# Altium schematic symbol library Schlib1.SchLib: 64 symbols
Pins are listed as number, name and electrical type; pins without a type are passive.

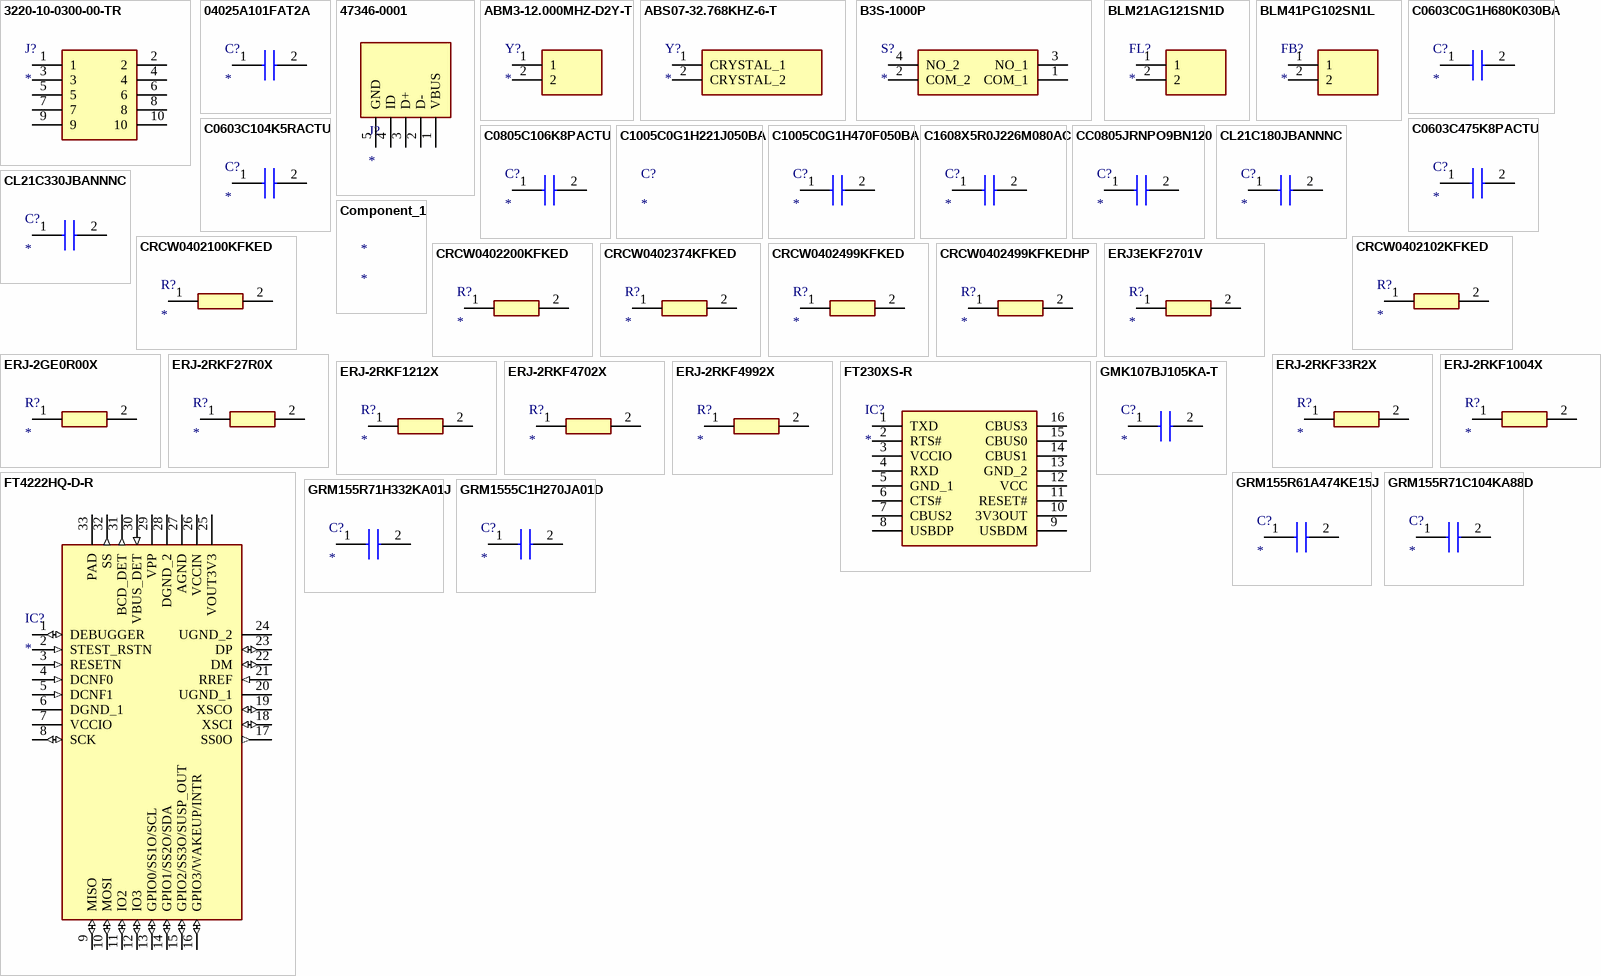
[diagram p0: symbols 3220-10-0300-00-TR to GRM1555C1H270JA01D]

## 3220-10-0300-00-TR
designator J?
Connector; Manufacturer_Name: CNC Tech; Manufacturer_Part_Number: 3220-10-0300-00-TR; Datasheet Link: http://www.cnctech.us/pdfs/3220-XX-0300-00-TR.pdf; Height: 5.55mm; Arrow Part Number: 3220-10-0300-00-TR; Arrow Price/Stock: https://www.arrow.com/en/products/3220-10-0300-00-tr/cnc-tech-llc?region=nac
footprint 322010030000TR
pins: 1, 2, 3, 4, 5, 6, 7, 8, 9, 10

## 04025A101FAT2A
designator C?
Capacitor; Manufacturer_Name: AVX; Manufacturer_Part_Number: 04025A101FAT2A; Datasheet Link: http://www.mouser.com/catalog/supplier/library/pdf/AVXSurfaceMountCeramic.pdf; Height: 0.56mm; Mouser Part Number: 581-04025A101F; Mouser Price/Stock: https://www.mouser.co.uk/ProductDetail/AVX/04025A101FAT2A?qs=MeUoP7zHHrXw8ucaKHqBUA%3D%3D; Arrow Part Number: 04025A101FAT2A; Arrow Price/Stock: https://www.arrow.com/en/products/04025a101fat2a/avx
footprint CAPC1005X56N
pins: 1, 2

## 47346-0001
designator J?
Connector; Manufacturer_Name: Molex; Manufacturer_Part_Number: 47346-0001; Datasheet Link: http://www.molex.com/pdm_docs/sd/473460001_sd.pdf; Mouser Part Number: 538-47346-0001; Mouser Price/Stock: https://www.mouser.co.uk/ProductDetail/Molex/47346-0001?qs=c2CV6XM0DweJBWaSeyWeCw%3D%3D
footprint usb conn
pins: 1 VBUS, 2 D-, 3 D+, 4 ID, 5 GND

## ABM3-12.000MHZ-D2Y-T
designator Y?
Crystal or Oscillator; Manufacturer_Name: ABRACON; Manufacturer_Part_Number: ABM3-12.000MHZ-D2Y-T; Datasheet Link: https://abracon.com/Resonators/abm3.pdf; Height: 1mm; Mouser Part Number: 815-ABM3-12-D2Y-T; Mouser Price/Stock: https://www.mouser.co.uk/ProductDetail/ABRACON/ABM3-12000MHZ-D2Y-T?qs=ihRgKfnEsN4a%252Bhdo6LkcSg%3D%3D; Arrow Part Number: ABM3-12.000MHZ-D2Y-T; Arrow Price/Stock: https://www.arrow.com/en/products/abm3-12.000mhz-d2y-t/abracon
footprint ABM38000MHzD2YT
pins: 1, 2

## ABS07-32.768KHZ-6-T
designator Y?
Crystal or Oscillator; Manufacturer_Name: ABRACON; Manufacturer_Part_Number: ABS07-32.768KHZ-6-T; Datasheet Link: https://abracon.com/Resonators/ABS07-LR.pdf; Height: 0.9mm; Mouser Part Number: 815-ABS07-32.768K6T; Mouser Price/Stock: https://www.mouser.co.uk/ProductDetail/ABRACON/ABS07-32768KHZ-6-T?qs=Pyu0ZBy%2FIJYqrd93qMRCiw%3D%3D; Arrow Part Number: ABS07-32.768KHZ-6-T; Arrow Price/Stock: https://www.arrow.com/en/products/abs07-32.768khz-6-t/abracon?region=nac
footprint ABS0732768KHZ6T
pins: 1 CRYSTAL_1, 2 CRYSTAL_2

## B3S-1000P
designator S?
Switch; Manufacturer_Name: Omron Electronics; Manufacturer_Part_Number: B3S-1000P; Datasheet Link: https://omronfs.omron.com/en_US/ecb/products/pdf/en-b3s.pdf; Height: 4.7mm; Mouser Part Number: 653-B3S-1000P; Mouser Price/Stock: https://www.mouser.co.uk/ProductDetail/Omron-Electronics/B3S-1000P?qs=VO24nqdQNUCU2XaZiLnzsQ%3D%3D; Arrow Part Number: B3S-1000P; Arrow Price/Stock: https://www.arrow.com/en/products/b3s1000p/omron?region=nac
footprint B3S1000P
pins: 1 COM_1, 2 COM_2, 3 NO_1, 4 NO_2

## BLM21AG121SN1D
designator FL?
Filter; Manufacturer_Name: Murata Electronics; Manufacturer_Part_Number: BLM21AG121SN1D; Datasheet Link: https://www.murata.com/en-us/products/productdetail?partno=BLM21AG121SN1%23; Height: 1.05mm; Mouser Part Number: 81-BLM21AG121SN1D; Mouser Price/Stock: https://www.mouser.co.uk/ProductDetail/Murata-Electronics/BLM21AG121SN1D/?qs=Yx1HeqtvVDh3I5YNpjdt%252BQ%3D%3D; Arrow Part Number: BLM21AG121SN1D; Arrow Price/Stock: https://www.arrow.com/en/products/blm21ag121sn1d/murata-manufacturing?region=europe
footprint BLM21AG102BH1J
pins: 1, 2

## BLM41PG102SN1L
designator FB?
Ferrite Bead; Manufacturer_Name: Murata Electronics; Manufacturer_Part_Number: BLM41PG102SN1L; Datasheet Link: https://www.murata.com/en-us/products/productdetail?partno=BLM41PG102SN1%23; Height: 1.8mm; Mouser Part Number: 81-BLM41PG102SN1L; Mouser Price/Stock: https://www.mouser.co.uk/ProductDetail/Murata-Electronics/BLM41PG102SN1L?qs=%252Bi%252B2JQhhbn3KYzONFOUA%2Fg%3D%3D; Arrow Part Number: BLM41PG102SN1L; Arrow Price/Stock: https://www.arrow.com/en/products/blm41pg102sn1l/murata-manufacturing
footprint BLM41PG102SH1L
pins: 1, 2

## C0603C0G1H680K030BA
designator C?
Capacitor; Manufacturer_Name: TDK; Manufacturer_Part_Number: C0603C0G1H680K030BA; Datasheet Link: https://product.tdk.com/system/files/dam/doc/product/capacitor/ceramic/mlcc/catalog/mlcc_commercial_general_en.pdf; Height: 0.33mm
footprint C0603_Commercial
pins: 1, 2

## C0603C104K5RACTU
designator C?
Capacitor; Manufacturer_Name: Kemet; Manufacturer_Part_Number: C0603C104K5RACTU; Datasheet Link: http://www.farnell.com/datasheets/2205446.pdf; Height: 0.95mm; Mouser Part Number: 80-C0603C104K5R; Mouser Price/Stock: https://www.mouser.co.uk/ProductDetail/KEMET/C0603C104K5RACTU?qs=l5k%252BbMnNDkkVcnZPSAaaiQ%3D%3D; Arrow Part Number: C0603C104K5RACTU; Arrow Price/Stock: https://www.arrow.com/en/products/c0603c104k5ractu/kemet-corporation?region=nac
footprint CAPC1608X95N
pins: 1, 2

## C0603C475K8PACTU
designator C?
Capacitor; Manufacturer_Name: Kemet; Manufacturer_Part_Number: C0603C475K8PACTU; Datasheet Link: http://componentsearchengine.com/Datasheets/1/C0603C475K8PACTU.pdf; Mouser Part Number: 80-C0603C475K8P; Mouser Price/Stock: https://www.mouser.co.uk/ProductDetail/KEMET/C0603C475K8PACTU?qs=K%2Fj%2Fqf%252B0fqK6lAUxhlPmKA%3D%3D; Arrow Part Number: C0603C475K8PACTU; Arrow Price/Stock: https://www.arrow.com/en/products/c0603c475k8pactu/kemet-corporation
footprint CAPC1608X85N
pins: 1 C1, 2 C2

## C0805C106K8PACTU
designator C?
Capacitor; Manufacturer_Name: Kemet; Manufacturer_Part_Number: C0805C106K8PACTU; Datasheet Link: https://www.arrow.com/en/products/c0805c106k8pactu/kemet-corporation; Height: 1.4mm; Mouser Part Number: 80-C0805C106K8P; Mouser Price/Stock: https://www.mouser.co.uk/ProductDetail/KEMET/C0805C106K8PACTU?qs=Zpyg6gQUYs39C21BeavaKA%3D%3D; Arrow Part Number: C0805C106K8PACTU; Arrow Price/Stock: https://www.arrow.com/en/products/c0805c106k8pactu/kemet-corporation
footprint CAPC2012X140N
pins: 1, 2

## C1005C0G1H221J050BA
designator C?
Capacitor; Manufacturer_Name: TDK; Manufacturer_Part_Number: C1005C0G1H221J050BA; Datasheet Link: https://product.tdk.com/system/files/dam/doc/product/capacitor/ceramic/mlcc/catalog/mlcc_commercial_general_en.pdf; Height: 0.55mm; Mouser Part Number: 810-C1005C0G1H221J; Mouser Price/Stock: https://www.mouser.co.uk/ProductDetail/TDK/C1005C0G1H221J050BA?qs=NRhsANhppD8YJPnzB6uXvQ%3D%3D; Arrow Part Number: C1005C0G1H221J050BA; Arrow Price/Stock: https://www.arrow.com/en/products/c1005c0g1h221j050ba/tdk
footprint C1005_Commercial

## C1005C0G1H470F050BA
designator C?
Capacitor; Manufacturer_Name: TDK; Manufacturer_Part_Number: C1005C0G1H470F050BA; Datasheet Link: https://product.tdk.com/system/files/dam/doc/product/capacitor/ceramic/mlcc/catalog/mlcc_commercial_general_en.pdf; Height: 0.55mm; Mouser Part Number: 810-C1005C0G1H470F; Mouser Price/Stock: https://www.mouser.com/Search/Refine.aspx?Keyword=810-C1005C0G1H470F
footprint C1005_Commercial
pins: 1, 2

## C1608X5R0J226M080AC
designator C?
Capacitor; Manufacturer_Name: TDK; Manufacturer_Part_Number: C1608X5R0J226M080AC; Datasheet Link: https://product.tdk.com/system/files/dam/doc/product/capacitor/ceramic/mlcc/catalog/mlcc_commercial_general_en.pdf; Height: 0.9mm; Mouser Part Number: 810-C1608X5R0J226M; Mouser Price/Stock: https://www.mouser.co.uk/ProductDetail/TDK/C1608X5R0J226M080AC?qs=NRhsANhppD%2FZwGFVoUm6mQ%3D%3D; Arrow Part Number: C1608X5R0J226M080AC; Arrow Price/Stock: https://www.arrow.com/en/products/c1608x5r0j226m080ac/tdk
footprint C1608_Commercial
pins: 1, 2

## CC0805JRNPO9BN120
designator C?
Capacitor; Manufacturer_Name: YAGEO (PHYCOMP); Manufacturer_Part_Number: CC0805JRNPO9BN120; Datasheet Link: https://www.mouser.com/datasheet/2/447/UPY-GP_NP0_16V-to-50V_16-1109089.pdf; Height: 0.7mm; Mouser Part Number: 603-CC805JRNPO9BN120; Mouser Price/Stock: https://www.mouser.co.uk/ProductDetail/YAGEO/CC0805JRNPO9BN120?qs=AgBp2OyFlx%252ByU%252BlCha9FzQ%3D%3D; Arrow Part Number: CC0805JRNPO9BN120; Arrow Price/Stock: https://www.arrow.com/en/products/cc0805jrnpo9bn120/yageo
footprint CAPC2012X70N
pins: 1, 2

## CL21C180JBANNNC
designator C?
Capacitor; Manufacturer_Name: Samsung Electro-Mechanics; Manufacturer_Part_Number: CL21C180JBANNNC; Datasheet Link: https://datasheet.datasheetarchive.com/originals/distributors/Datasheets_SAMA/704d9ee6c0360fd977a3c31d735d98ca.pdf; Height: 1.35mm; Arrow Part Number: CL21C180JBANNNC; Arrow Price/Stock: https://www.arrow.com/en/products/cl21c180jbannnc/samsung-electro-mechanics
footprint CAPC2012X135N
pins: 1, 2

## CL21C330JBANNNC
designator C?
Capacitor; Manufacturer_Name: Samsung Electro-Mechanics; Manufacturer_Part_Number: CL21C330JBANNNC; Datasheet Link: http://product.samsungsem.com/mlcc/CL21C330JBANNW.do; Height: 0.75mm
footprint CAPC2012X75N
pins: 1, 2

## Component_1
designator *

## CRCW0402100KFKED
designator R?
Resistor; Manufacturer_Name: Vishay; Manufacturer_Part_Number: CRCW0402100KFKED; Datasheet Link: http://www.vishay.com/docs/20035/dcrcwe3.pdf; Height: 0.4mm; Mouser Part Number: 71-CRCW0402-100K-E3; Mouser Price/Stock: https://www.mouser.co.uk/ProductDetail/Vishay-Dale/CRCW0402100KFKED?qs=OlqPY1CiralZGKRwQ4Glcg%3D%3D; Arrow Part Number: CRCW0402100KFKED; Arrow Price/Stock: https://www.arrow.com/en/products/crcw0402100kfked/vishay
footprint RESC1005X40N
pins: 1, 2

## CRCW0402102KFKED
designator R?
Resistor; Manufacturer_Name: Vishay; Manufacturer_Part_Number: CRCW0402102KFKED; Datasheet Link: http://www.vishay.com/docs/20035/dcrcwe3.pdf; Height: 0.4mm; Mouser Part Number: 71-CRCW0402-102K-E3; Mouser Price/Stock: https://www.mouser.co.uk/ProductDetail/Vishay-Dale/CRCW0402102KFKED?qs=rlE3Te1NifwphdA8fQQlsA%3D%3D; Arrow Part Number: CRCW0402102KFKED; Arrow Price/Stock: https://www.arrow.com/en/products/crcw0402102kfked/vishay
footprint RESC1005X40N
pins: 1, 2

## CRCW0402200KFKED
designator R?
Resistor; Manufacturer_Name: Vishay; Manufacturer_Part_Number: CRCW0402200KFKED; Datasheet Link: http://www.vishay.com/docs/20035/dcrcwe3.pdf; Height: 0.4mm; Mouser Part Number: 71-CRCW0402-200K-E3; Mouser Price/Stock: https://www.mouser.com/Search/Refine.aspx?Keyword=71-CRCW0402-200K-E3; Arrow Part Number: CRCW0402200KFKED; Arrow Price/Stock: https://www.arrow.com/en/products/crcw0402200kfked/vishay
footprint RESC1005X40N
pins: 1, 2

## CRCW0402374KFKED
designator R?
Resistor; Manufacturer_Name: Vishay; Manufacturer_Part_Number: CRCW0402374KFKED; Datasheet Link: http://www.vishay.com/docs/20035/dcrcwe3.pdf; Height: 0.4mm; Mouser Part Number: 71-CRCW0402-374K-E3; Mouser Price/Stock: https://www.mouser.co.uk/ProductDetail/Vishay-Dale/CRCW0402374KFKED?qs=1XGAtBqYNz57mwAP8KKAqw%3D%3D; Arrow Part Number: CRCW0402374KFKED; Arrow Price/Stock: https://www.arrow.com/en/products/crcw0402374kfked/vishay
footprint RESC1005X40N
pins: 1, 2

## CRCW0402499KFKED
designator R?
Resistor; Manufacturer_Name: Vishay; Manufacturer_Part_Number: CRCW0402499KFKED; Datasheet Link: http://www.vishay.com/docs/20035/dcrcwe3.pdf; Height: 0.4mm; Mouser Part Number: 71-CRCW0402-499K-E3; Mouser Price/Stock: https://www.mouser.co.uk/ProductDetail/Vishay-Dale/CRCW0402499KFKED?qs=hAuyw6LW%252BLiJEa%252B3vtZI3Q%3D%3D
footprint RESC1005X40N
pins: 1, 2

## CRCW0402499KFKEDHP
designator R?
Resistor; Manufacturer_Name: Vishay; Manufacturer_Part_Number: CRCW0402499KFKEDHP; Datasheet Link: http://www.vishay.com/docs/20035/dcrcwe3.pdf; Height: 0.4mm; Mouser Part Number: 71-CRCW0402499KFKEDH; Mouser Price/Stock: https://www.mouser.co.uk/ProductDetail/Vishay-Dale/CRCW0402499KFKEDHP?qs=3t4MbaZKGHGzbewIVrW3wg%3D%3D
footprint RESC1005X40N
pins: 1, 2

## ERJ3EKF2701V
designator R?
Resistor; Manufacturer_Name: Panasonic; Manufacturer_Part_Number: ERJ3EKF2701V; Datasheet Link: https://industrial.panasonic.com/cdbs/www-data/pdf/RDA0000/AOA0000C304.pdf; Height: 0.55mm
footprint ERJ3EK_(0603)
pins: 1, 2

## ERJ-2GE0R00X
designator R?
Resistor; Manufacturer_Name: Panasonic; Manufacturer_Part_Number: ERJ-2GE0R00X; Datasheet Link: http://industrial.panasonic.com/www-cgi/jvcr13pz.cgi?E+PZ+3+AOA0001+ERJ2GE0R00X+7+WW; Height: 0.4mm; Mouser Part Number: 667-ERJ-2GE0R00X; Mouser Price/Stock: https://www.mouser.co.uk/ProductDetail/Panasonic/ERJ-2GE0R00X?qs=Cz%252B5TvT4yly5%252BP7oLZcLxw%3D%3D; Arrow Part Number: ERJ-2GE0R00X; Arrow Price/Stock: https://www.arrow.com/en/products/erj2ge0r00x/panasonic
footprint RESC1005X40N (Footprint not found)
pins: 1, 2

## ERJ-2RKF27R0X
designator R?
Resistor; Manufacturer_Name: Panasonic; Manufacturer_Part_Number: ERJ-2RKF27R0X; Datasheet Link: http://industrial.panasonic.com/cdbs/www-data/pdf/RDA0000/AOA0000C304.pdf; Height: 0.4mm; Mouser Part Number: 667-ERJ-2RKF27R0X; Mouser Price/Stock: https://www.mouser.co.uk/ProductDetail/Panasonic/ERJ-2RKF27R0X?qs=YMBIwoNQYdXRmpDlurxRVg%3D%3D; Arrow Part Number: ERJ-2RKF27R0X; Arrow Price/Stock: https://www.arrow.com/en/products/erj-2rkf27r0x/panasonic
footprint ERJ2R_(0402)
pins: 1, 2

## ERJ-2RKF33R2X
designator R?
Resistor; Manufacturer_Name: Panasonic; Manufacturer_Part_Number: ERJ-2RKF33R2X; Datasheet Link: http://industrial.panasonic.com/cdbs/www-data/pdf/RDA0000/AOA0000C304.pdf; Height: 0.4mm; Mouser Part Number: 667-ERJ-2RKF33R2X; Mouser Price/Stock: https://www.mouser.com/Search/Refine.aspx?Keyword=667-ERJ-2RKF33R2X
footprint ERJ2R_(0402)
pins: 1, 2

## ERJ-2RKF1004X
designator R?
Resistor; Manufacturer_Name: Panasonic; Manufacturer_Part_Number: ERJ-2RKF1004X; Datasheet Link: http://industrial.panasonic.com/cdbs/www-data/pdf/RDA0000/AOA0000C304.pdf; Height: 0.4mm; Mouser Part Number: 667-ERJ-2RKF1004X; Mouser Price/Stock: https://www.mouser.co.uk/ProductDetail/Panasonic/ERJ-2RKF1004X?qs=H7k1u0Mp9JTG%252BclS6LVdqw%3D%3D; Arrow Part Number: ERJ-2RKF1004X; Arrow Price/Stock: https://www.arrow.com/en/products/erj-2rkf1004x/panasonic
footprint ERJ2R_(0402)
pins: 1, 2

## ERJ-2RKF1212X
designator R?
Resistor; Manufacturer_Name: Panasonic; Manufacturer_Part_Number: ERJ-2RKF1212X; Datasheet Link: http://industrial.panasonic.com/cdbs/www-data/pdf/RDA0000/AOA0000C304.pdf; Height: 0.4mm; Mouser Part Number: 667-ERJ-2RKF1212X; Mouser Price/Stock: https://www.mouser.co.uk/ProductDetail/Panasonic/ERJ-2RKF1212X?qs=MVjVSMjNRMoqfjL0Oti%252BUw%3D%3D
footprint ERJ2R_(0402)
pins: 1, 2

## ERJ-2RKF4702X
designator R?
Resistor; Manufacturer_Name: Panasonic; Manufacturer_Part_Number: ERJ-2RKF4702X; Datasheet Link: http://industrial.panasonic.com/cdbs/www-data/pdf/RDA0000/AOA0000C304.pdf; Height: 0.4mm; Mouser Part Number: 667-ERJ-2RKF4702X; Mouser Price/Stock: https://www.mouser.co.uk/ProductDetail/Panasonic/ERJ-2RKF4702X?qs=YMBIwoNQYdXNvWEgS7s3Nw%3D%3D; Arrow Part Number: ERJ-2RKF4702X; Arrow Price/Stock: https://www.arrow.com/en/products/erj-2rkf4702x/panasonic
footprint ERJ2R_(0402)
pins: 1, 2

## ERJ-2RKF4992X
designator R?
Resistor; Manufacturer_Name: Panasonic; Manufacturer_Part_Number: ERJ-2RKF4992X; Datasheet Link: http://industrial.panasonic.com/cdbs/www-data/pdf/RDA0000/AOA0000C304.pdf; Height: 0.4mm; Mouser Part Number: 667-ERJ-2RKF4992X; Mouser Price/Stock: https://www.mouser.co.uk/ProductDetail/Panasonic/ERJ-2RKF4992X/?qs=1iN9QGIZ5R%252Bb2pvOGnid7w%3D%3D; Arrow Part Number: ERJ-2RKF4992X; Arrow Price/Stock: https://www.arrow.com/en/products/erj-2rkf4992x/panasonic
footprint ERJ2R_(0402)
pins: 1, 2

## FT230XS-R
designator IC?
Integrated Circuit; Manufacturer_Name: FTDI Chip; Manufacturer_Part_Number: FT230XS-R; Datasheet Link: http://www.ftdichip.com/Support/Documents/DataSheets/ICs/DS_FT230X.pdf; Height: 1.753mm; Mouser Part Number: 895-FT230XS-R; Mouser Price/Stock: https://www.mouser.co.uk/ProductDetail/FTDI/FT230XS-R?qs=Gp1Yz1mis3XyCLeYOseSng%3D%3D; Arrow Part Number: FT230XS-R; Arrow Price/Stock: http://www.arrow.com/en/products/ft230xs-r/ftdi-chip
footprint SOP64P599X175-16N
pins: 1 TXD, 2 RTS#, 3 VCCIO, 4 RXD, 5 GND_1, 6 CTS#, 7 CBUS2, 8 USBDP, 9 USBDM, 10 3V3OUT, 11 RESET#, 12 VCC, 13 GND_2, 14 CBUS1, 15 CBUS0, 16 CBUS3

## FT4222HQ-D-R
designator IC?
Integrated Circuit; Manufacturer_Name: FTDI Chip; Manufacturer_Part_Number: FT4222HQ-D-R; Datasheet Link: https://www.ftdichip.com/Support/Documents/DataSheets/ICs/DS_FT4222H.pdf; Height: 0.9mm; Mouser Part Number: 895-FT4222HQ-D-R; Mouser Price/Stock: https://www.mouser.co.uk/ProductDetail/FTDI/FT4222HQ-D-R?qs=F5EMLAvA7ICA8wBdrr3fuQ%3D%3D; Arrow Part Number: FT4222HQ-D-R; Arrow Price/Stock: https://www.arrow.com/en/products/ft4222hq-d-r/ftdi-chip?region=nac
footprint QFN50P500X500X90-33N
pins: 1 DEBUGGER (io), 2 STEST_RSTN (in), 3 RESETN (in), 4 DCNF0 (in), 5 DCNF1 (in), 6 DGND_1 (power), 7 VCCIO (power), 8 SCK (io), 9 MISO (io), 10 MOSI (io), 11 IO2 (io), 12 IO3 (io), 13 GPIO0/SS1O/SCL (io), 14 GPIO1/SS2O/SDA (io), 15 GPIO2/SS3O/SUSP_OUT (io), 16 GPIO3/WAKEUP/INTR (io), 17 SS0O (out), 18 XSCI (io), 19 XSCO (io), 20 UGND_1 (power), 21 RREF (in), 22 DM (io), 23 DP (io), 24 UGND_2 (power), 25 VOUT3V3 (power), 26 VCCIN (power), 27 AGND (power), 28 DGND_2 (power), 29 VPP (power), 30 VBUS_DET (in), 31 BCD_DET (out), 32 SS (out), 33 PAD (power)

## GMK107BJ105KA-T
designator C?
Capacitor; Manufacturer_Name: TAIYO YUDEN; Manufacturer_Part_Number: GMK107BJ105KA-T; Datasheet Link: https://datasheet.datasheetarchive.com/originals/distributors/Datasheets-DGA10/2404957.pdf; Height: 0.9mm; Mouser Part Number: 963-GMK107BJ105KA-T; Mouser Price/Stock: https://www.mouser.co.uk/ProductDetail/Taiyo-Yuden/GMK107BJ105KA-T?qs=I6KAKw0tg2ykHAqS8PSP9Q%3D%3D
footprint CAPC1608X90N
pins: 1, 2

## GRM155R61A474KE15J
designator C?
Capacitor; Manufacturer_Name: Murata Electronics; Manufacturer_Part_Number: GRM155R61A474KE15J; Datasheet Link: https://datasheet.datasheetarchive.com/originals/distributors/Datasheets_SAMA/ec4f1577dddcc7a13ddad897a28002d3.pdf; Height: 0.55mm; Mouser Part Number: 81-GRM155R61A474KE5J; Mouser Price/Stock: https://www.mouser.co.uk/ProductDetail/Murata-Electronics/GRM155R61A474KE15J?qs=vlRPwuE0P7lseeNiDfG%252BAQ%3D%3D; Arrow Part Number: GRM155R61A474KE15J; Arrow Price/Stock: https://www.arrow.com/en/products/grm155r61a474ke15j/murata-manufacturing
footprint CAPC1005X55N
pins: 1, 2

## GRM155R71C104KA88D
designator C?
Capacitor; Manufacturer_Name: Murata Electronics; Manufacturer_Part_Number: GRM155R71C104KA88D; Datasheet Link: https://datasheet.datasheetarchive.com/originals/distributors/Datasheets_SAMA/ec4f1577dddcc7a13ddad897a28002d3.pdf; Height: 0.55mm; Mouser Part Number: N/A; Arrow Part Number: GRM155R71C104KA88D; Arrow Price/Stock: https://www.arrow.com/en/products/grm155r71c104ka88d/murata-manufacturing?region=nac
footprint CAPC1005X55N
pins: 1, 2

## GRM155R71H332KA01J
designator C?
Capacitor; Manufacturer_Name: Murata Electronics; Manufacturer_Part_Number: GRM155R71H332KA01J; Datasheet Link: https://datasheet.datasheetarchive.com/originals/distributors/Datasheets_SAMA/ec4f1577dddcc7a13ddad897a28002d3.pdf; Height: 0.55mm; Mouser Part Number: 81-GRM155R71H332KA1J; Mouser Price/Stock: https://www.mouser.com/Search/Refine.aspx?Keyword=81-GRM155R71H332KA1J
footprint CAPC1005X55N
pins: 1, 2

## GRM1555C1H270JA01D
designator C?
Capacitor; Manufacturer_Name: Murata Electronics; Manufacturer_Part_Number: GRM1555C1H270JA01D; Datasheet Link: https://datasheet.datasheetarchive.com/originals/distributors/Datasheets_SAMA/ec4f1577dddcc7a13ddad897a28002d3.pdf; Height: 0.55mm; Mouser Part Number: 81-GRM1555C1H270JA1D; Mouser Price/Stock: https://www.mouser.co.uk/ProductDetail/Murata-Electronics/GRM1555C1H270JA01D?qs=4k9rjS6ZRl6bZIQOxCwSeQ%3D%3D; Arrow Part Number: GRM1555C1H270JA01D; Arrow Price/Stock: https://www.arrow.com/en/products/grm1555c1h270ja01d/murata-manufacturing
footprint CAPC1005X55N
pins: 1, 2

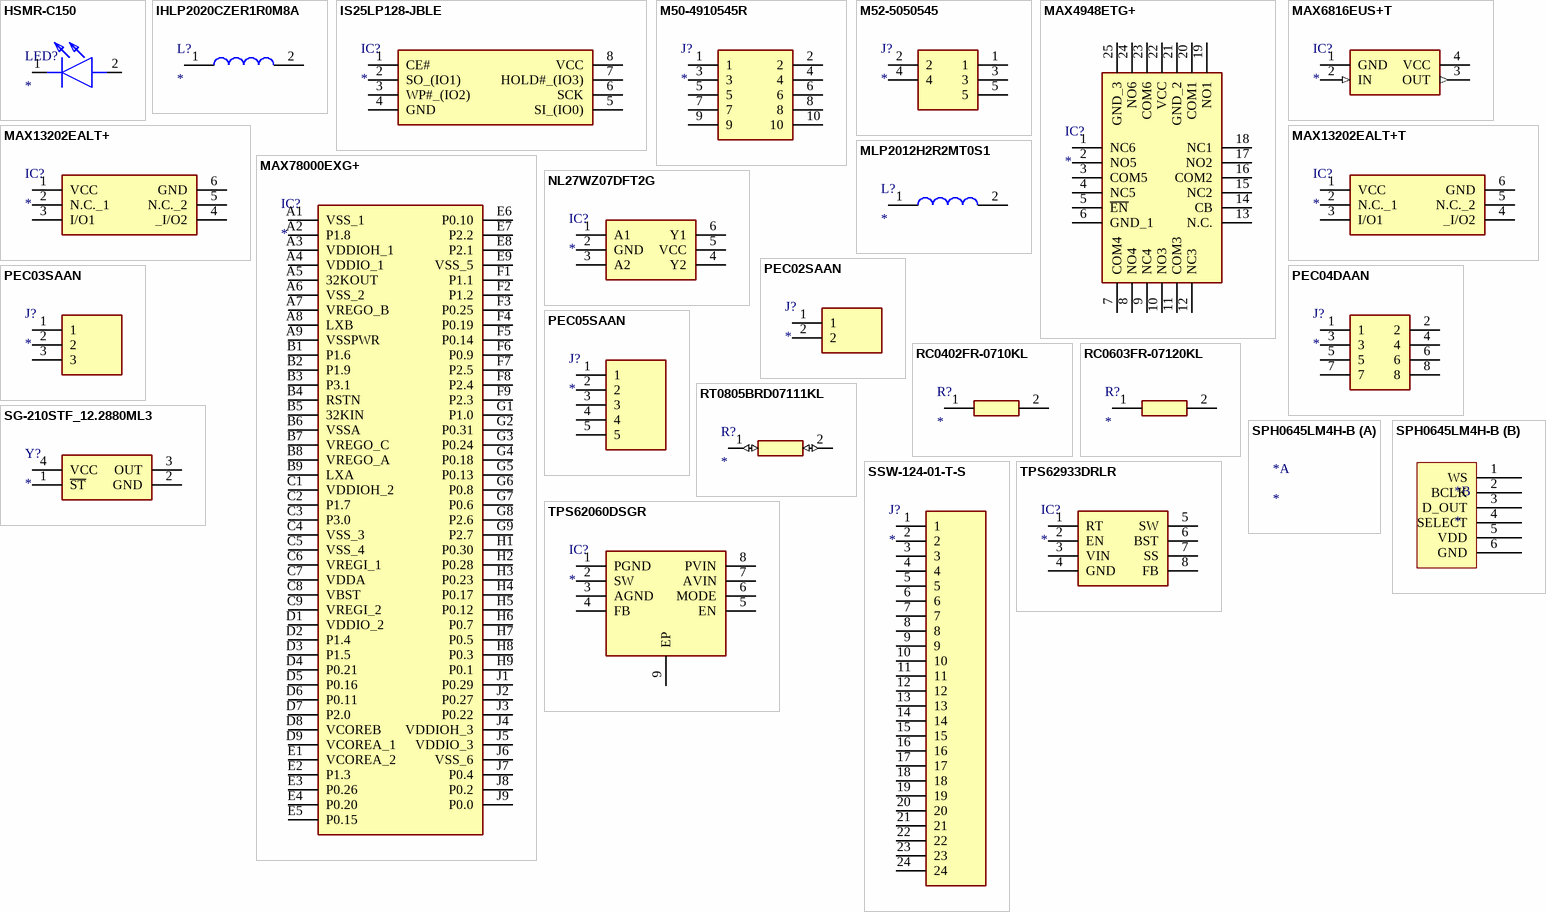
[diagram p1: symbols HSMR-C150 to TPS62933DRLR]

## HSMR-C150
designator LED?
LED; Manufacturer_Name: Avago Technologies; Manufacturer_Part_Number: HSMR-C150; Datasheet Link: https://componentsearchengine.com/Datasheets/2/HSMR-C150.pdf; Height: 1.2mm; Mouser Part Number: 630-HSMR-C150; Mouser Price/Stock: https://www.mouser.co.uk/ProductDetail/Broadcom-Avago/HSMR-C150?qs=YDL0qNrpDT5KBl5KNuuRTw%3D%3D
footprint LEDC3216X120N
pins: 1 K, 2 A

## IHLP2020CZER1R0M8A
designator L?
Inductor; Manufacturer_Name: Vishay; Manufacturer_Part_Number: IHLP2020CZER1R0M8A; Datasheet Link: https://www.vishay.com/docs/34563/ihlp-2020cz-8a.pdf; Height: 3mm; Mouser Part Number: 70-IHLP2020CZR1R0M8A; Mouser Price/Stock: https://www.mouser.co.uk/ProductDetail/Vishay-Dale/IHLP2020CZER1R0M8A?qs=DRkmTr78QAQbvJic74K0Vg%3D%3D
footprint INDPM5552X300N
pins: 1, 2

## IS25LP128-JBLE
designator IC?
Integrated Circuit; Manufacturer_Name: Integrated Silicon Solution Inc.; Manufacturer_Part_Number: IS25LP128-JBLE; Datasheet Link: https://datasheet.datasheetarchive.com/originals/distributors/DKDS-13/254838.pdf; Height: 2.16mm; Mouser Part Number: 870-IS25LP128-JBLE; Mouser Price/Stock: https://www.mouser.co.uk/ProductDetail/ISSI/IS25LP128-JBLE?qs=rnuWwpjhhVunvfx8GxnhmA%3D%3D; Arrow Part Number: IS25LP128-JBLE; Arrow Price/Stock: https://www.arrow.com/en/products/is25lp128-jble/integrated-silicon-solution-inc
footprint SOIC127P790X216-8N
pins: 1 CE#, 2 SO_(IO1), 3 WP#_(IO2), 4 GND, 5 SI_(IO0), 6 SCK, 7 HOLD#_(IO3), 8 VCC

## M50-4910545R
designator J?
Connector; Manufacturer_Name: Harwin; Manufacturer_Part_Number: M50-4910545R; Datasheet Link: https://cdn.harwin.com/pdfs/M50-491.pdf; Height: 6.35mm; Mouser Part Number: 855-M50-4910545R; Mouser Price/Stock: https://www.mouser.co.uk/ProductDetail/Harwin/M50-4910545R?qs=k41KVqW3ymoVzU%2F4Ovjqaw%3D%3D
footprint M504910545R
pins: 1, 2, 3, 4, 5, 6, 7, 8, 9, 10

## M52-5050545
designator J?
Connector; Manufacturer_Name: Harwin; Manufacturer_Part_Number: M52-5050545; Datasheet Link: https://cdn.harwin.com/pdfs/M52-505.pdf; Height: 5.7mm; Mouser Part Number: 855-M52-5050545; Mouser Price/Stock: https://www.mouser.co.uk/ProductDetail/Harwin/M52-5050545?qs=%252Bk6%2F5FB6qrk5mVrIdNiYzQ%3D%3D
footprint M525050545
pins: 1, 2, 3, 4, 5

## MAX4948ETG+
designator IC?
Integrated Circuit; Manufacturer_Name: Maxim Integrated; Manufacturer_Part_Number: MAX4948ETG+; Datasheet Link: https://datasheets.maximintegrated.com/en/ds/MAX4947-MAX4948.pdf; Height: 0.8mm; Mouser Part Number: 700-MAX4948ETG; Mouser Price/Stock: https://www.mouser.co.uk/ProductDetail/Maxim-Integrated/MAX4948ETG%2b/?qs=LHmEVA8xxfa3Nwt5cul%252BwA%3D%3D
footprint QFN50P400X400X80-25N
pins: 1 NC6, 2 NO5, 3 COM5, 4 NC5, 5 ~{EN}, 6 GND_1, 7 COM4, 8 NO4, 9 NC4, 10 NO3, 11 COM3, 12 NC3, 13 N.C., 14 CB, 15 NC2, 16 COM2, 17 NO2, 18 NC1, 19 NO1, 20 COM1, 21 GND_2, 22 VCC, 23 COM6, 24 NO6, 25 GND_3

## MAX6816EUS+T
designator IC?
Integrated Circuit; Manufacturer_Name: Maxim Integrated; Manufacturer_Part_Number: MAX6816EUS+T; Datasheet Link: http://datasheets.maximintegrated.com/en/ds/MAX6816-MAX6818.pdf; Height: 1.22mm; Mouser Part Number: 700-MAX6816EUST; Mouser Price/Stock: https://www.mouser.co.uk/ProductDetail/Maxim-Integrated/MAX6816EUS%2bT?qs=1THa7WoU59EAx6vXEummCg%3D%3D
footprint MAX812REUST
pins: 1 GND (power), 2 IN (in), 3 OUT (out), 4 VCC (power)

## MAX13202EALT+
designator IC?
Integrated Circuit; Manufacturer_Name: Maxim Integrated; Manufacturer_Part_Number: MAX13202EALT+; Datasheet Link: https://pdfserv.maximintegrated.com/en/ds/MAX13202E-MAX13208E.pdf; Height: 0.8mm
footprint MAX13202EALT
pins: 1 VCC, 2 N.C._1, 3 I/O1, 4 _I/O2, 5 N.C._2, 6 GND

## MAX13202EALT+T
designator IC?
Integrated Circuit; Manufacturer_Name: Maxim Integrated; Manufacturer_Part_Number: MAX13202EALT+T; Datasheet Link: https://pdfserv.maximintegrated.com/en/ds/MAX13202E-MAX13208E.pdf; Height: 0.8mm; Mouser Part Number: 700-MAX13202EALTT; Mouser Price/Stock: https://www.mouser.co.uk/ProductDetail/Maxim-Integrated/MAX13202EALT%2bT?qs=8wHch9UpSvYWK1vZ7ylxSw%3D%3D
footprint MAX13202EALTT
pins: 1 VCC, 2 N.C._1, 3 I/O1, 4 _I/O2, 5 N.C._2, 6 GND

## MAX78000EXG+
designator IC?
Integrated Circuit; Manufacturer_Name: Maxim Integrated; Manufacturer_Part_Number: MAX78000EXG+; Datasheet Link: https://pdfserv.maximintegrated.com/en/ds/MAX78000.pdf; Height: 1.3mm; Mouser Part Number: 700-MAX78000EXG+; Mouser Price/Stock: https://www.mouser.co.uk/ProductDetail/Maxim-Integrated/MAX78000EXG%2b?qs=yqaQSyyJnNigS5t%2FKz0nhQ%3D%3D
footprint max78000
pins: A1 VSS_1, A2 P1.8, A3 VDDIOH_1, A4 VDDIO_1, A5 32KOUT, A6 VSS_2, A7 VREGO_B, A8 LXB, A9 VSSPWR, B1 P1.6, B2 P1.9, B3 P3.1, B4 RSTN, B5 32KIN, B6 VSSA, B7 VREGO_C, B8 VREGO_A, B9 LXA, C1 VDDIOH_2, C2 P1.7, C3 P3.0, C4 VSS_3, C5 VSS_4, C6 VREGI_1, C7 VDDA, C8 VBST, C9 VREGI_2, D1 VDDIO_2, D2 P1.4, D3 P1.5, D4 P0.21, D5 P0.16, D6 P0.11, D7 P2.0, D8 VCOREB, D9 VCOREA_1, E1 VCOREA_2, E2 P1.3, E3 P0.26, E4 P0.20, E5 P0.15, E6 P0.10, E7 P2.2, E8 P2.1, E9 VSS_5, F1 P1.1, F2 P1.2, F3 P0.25, F4 P0.19, F5 P0.14, F6 P0.9, F7 P2.5, F8 P2.4, F9 P2.3, G1 P1.0, G2 P0.31, G3 P0.24, G4 P0.18, G5 P0.13, G6 P0.8, G7 P0.6, G8 P2.6, G9 P2.7, H1 P0.30, H2 P0.28, H3 P0.23, H4 P0.17, H5 P0.12, H6 P0.7, H7 P0.5, H8 P0.3, H9 P0.1, J1 P0.29, J2 P0.27, J3 P0.22, J4 VDDIOH_3, J5 VDDIO_3, J6 VSS_6, J7 P0.4, J8 P0.2, J9 P0.0

## MLP2012H2R2MT0S1
designator L?
Inductor; Manufacturer_Name: TDK; Manufacturer_Part_Number: MLP2012H2R2MT0S1; Datasheet Link: https://product.tdk.com/system/files/dam/doc/product/inductor/inductor/smd/catalog/inductor_commercial_power_mlp2012_en.pdf; Height: 1.05mm; Mouser Part Number: 810-MLP2012H2R2MT0S1; Mouser Price/Stock: https://www.mouser.co.uk/ProductDetail/TDK/MLP2012H2R2MT0S1?qs=%2FPzWLGNeQ%252BgQ1f6yrO9reg%3D%3D; Arrow Part Number: MLP2012H2R2MT0S1; Arrow Price/Stock: https://www.arrow.com/en/products/mlp2012h2r2mt0s1/tdk
footprint INDC2012X105N
pins: 1, 2

## NL27WZ07DFT2G
designator IC?
Integrated Circuit; Manufacturer_Name: ON Semiconductor; Manufacturer_Part_Number: NL27WZ07DFT2G; Datasheet Link: https://www.onsemi.com/pdf/datasheet/nl27wz07-d.pdf; Height: 1.1mm; Mouser Part Number: 863-NL27WZ07DFT2G; Mouser Price/Stock: https://www.mouser.com/Search/Refine.aspx?Keyword=863-NL27WZ07DFT2G; Arrow Part Number: NL27WZ07DFT2G; Arrow Price/Stock: https://www.arrow.com/en/products/nl27wz07dft2g/on-semiconductor?region=nac
footprint SOT65P210X110-6N
pins: 1 A1, 2 GND, 3 A2, 4 Y2, 5 VCC, 6 Y1

## PEC02SAAN
designator J?
Connector; Manufacturer_Name: Sullins; Manufacturer_Part_Number: PEC02SAAN; Datasheet Link: https://s3.amazonaws.com/catalogspreads-pdf/PAGE112-113%20.100%20MALE%20HDR.pdf; Height: 8.38mm
footprint HDRV2W64P0X254_1X2_508X254X838P
pins: 1, 2

## PEC03SAAN
designator J?
Connector; Manufacturer_Name: Sullins; Manufacturer_Part_Number: PEC03SAAN; Datasheet Link: https://s3.amazonaws.com/catalogspreads-pdf/PAGE112-113%20.100%20MALE%20HDR.pdf; Height: 8.38mm
footprint HDRV3W64P0X254_1X3_762X254X838P
pins: 1, 2, 3

## PEC04DAAN
designator J?
Connector; Manufacturer_Name: Sullins; Manufacturer_Part_Number: PEC04DAAN; Datasheet Link: https://drawings-pdf.s3.amazonaws.com/C10419.pdf; Height: 8.38mm
footprint HDRV8W64P254_2X4_1016X508X838P
pins: 1, 2, 3, 4, 5, 6, 7, 8

## PEC05SAAN
designator J?
Connector; Manufacturer_Name: Sullins; Manufacturer_Part_Number: PEC05SAAN; Datasheet Link: https://s3.amazonaws.com/catalogspreads-pdf/PAGE112-113%20.100%20MALE%20HDR.pdf; Height: 8.58mm
footprint HDRV5W64P0X254_1X5_1270X254X858P
pins: 1, 2, 3, 4, 5

## RC0402FR-0710KL
designator R?
Resistor; Manufacturer_Name: YAGEO (PHYCOMP); Manufacturer_Part_Number: RC0402FR-0710KL; Datasheet Link: https://datasheet.datasheetarchive.com/originals/distributors/Datasheets_SAMA/902f9e387b938f871d31120f5fc1d65e.pdf; Height: 0.4mm; Mouser Part Number: 603-RC0402FR-0710KL; Mouser Price/Stock: https://www.mouser.co.uk/ProductDetail/YAGEO/RC0402FR-0710KL?qs=I1mnnYJTTsxUoNwrUsQExA%3D%3D; Arrow Part Number: RC0402FR-0710KL; Arrow Price/Stock: https://www.arrow.com/en/products/rc0402fr-0710kl/yageo
footprint RESC1005X40N
pins: 1, 2

## RC0603FR-07120KL
designator R?
Resistor; Manufacturer_Name: YAGEO (PHYCOMP); Manufacturer_Part_Number: RC0603FR-07120KL; Datasheet Link: https://datasheet.datasheetarchive.com/originals/distributors/Datasheets_SAMA/902f9e387b938f871d31120f5fc1d65e.pdf; Height: 0.55mm; Mouser Part Number: 603-RC0603FR-07120KL; Mouser Price/Stock: https://www.mouser.co.uk/ProductDetail/YAGEO/RC0603FR-07120KL?qs=IuGqVx9wL0JtpsOJLI%252BszA%3D%3D; Arrow Part Number: RC0603FR-07120KL; Arrow Price/Stock: https://www.arrow.com/en/products/rc0603fr-07120kl/yageo?region=europe
footprint RESC1608X55N
pins: 1, 2

## RT0805BRD07111KL
designator R?
Resistor; Manufacturer_Name: YAGEO (PHYCOMP); Manufacturer_Part_Number: RT0805BRD07111KL; Datasheet Link: https://componentsearchengine.com/Datasheets/1/RT0805BRD07111KL.pdf; Height: 0.6mm; Mouser Part Number: 603-RT0805BRD07111KL; Mouser Price/Stock: https://www.mouser.co.uk/ProductDetail/Yageo/RT0805BRD07111KL?qs=bQfrgN9vNvxW8OaJGLTFCQ%3D%3D; Arrow Part Number: RT0805BRD07111KL; Arrow Price/Stock: https://www.arrow.com/en/products/rt0805brd07111kl/yageo
footprint RESC2012X60N
pins: 1 (io), 2 (io)

## SG-210STF_12.2880ML3
designator Y?
Crystal or Oscillator; Manufacturer_Name: Epson Timing; Manufacturer_Part_Number: SG-210STF 12.2880ML3; Datasheet Link: https://support.epson.biz/td/api/doc_check.php?dl=brief_SG-210STF&lang=en; Height: 0.9mm; Mouser Part Number: 732-SG210STF12.288L3; Mouser Price/Stock: https://www.mouser.co.uk/ProductDetail/Epson-Timing/SG-210STF-122880ML3?qs=6J2kD0vu%2F2VMSmlKNtfCoQ%3D%3D; Arrow Part Number: SG-210STF 12.2880ML3; Arrow Price/Stock: https://www.arrow.com/en/products/sg-210stf12.2880ml3/epson-electronics-america
footprint SG210STF122880ML3
pins: 1 ~{ST}, 2 GND, 3 OUT, 4 VCC

## SPH0645LM4H-B
designator *
part B pins: 1 WS, 2 BCLK, 3 D_OUT, 4 SELECT, 5 VDD, 6 GND

## SSW-124-01-T-S
designator J?
Connector; Manufacturer_Name: SAMTEC; Manufacturer_Part_Number: SSW-124-01-T-S; Datasheet Link: http://suddendocs.samtec.com/prints/ssw-1xx-xx-xxx-x-xx-xxx-xx-mkt.pdf; Mouser Part Number: 200-SSW12401TS
footprint SAMTEC_SSW-124-01-T-S
pins: 1, 2, 3, 4, 5, 6, 7, 8, 9, 10, 11, 12, 13, 14, 15, 16, 17, 18, 19, 20, 21, 22, 23, 24

## TPS62060DSGR
designator IC?
Integrated Circuit; Manufacturer_Name: Texas Instruments; Manufacturer_Part_Number: TPS62060DSGR; Datasheet Link: http://www.ti.com/lit/gpn/TPS62060; Height: 0.8mm; Mouser Part Number: 595-TPS62060DSGR; Mouser Price/Stock: https://www.mouser.co.uk/ProductDetail/Texas-Instruments/TPS62060DSGR?qs=%2Fqzd9s%252BcLd7NphHetRHQZQ%3D%3D; Arrow Part Number: TPS62060DSGR; Arrow Price/Stock: https://www.arrow.com/en/products/tps62060dsgr/texas-instruments
footprint SON50P200X200X80-9N
pins: 1 PGND, 2 SW, 3 AGND, 4 FB, 5 EN, 6 MODE, 7 AVIN, 8 PVIN, 9 EP

## TPS62933DRLR
designator IC?
Integrated Circuit; Manufacturer_Name: Texas Instruments; Manufacturer_Part_Number: TPS62933DRLR; Datasheet Link: https://www.ti.com/lit/ds/symlink/tps62933.pdf?ts=1626073394234; Height: 0.6mm
footprint SOTFL50P160X60-8N
pins: 1 RT, 2 EN, 3 VIN, 4 GND, 5 SW, 6 BST, 7 SS, 8 FB